# Altium schematic symbol library yu0316-NSC_LDO.SchLib: 2590 symbols (part 1 of 64)
Pins are listed as number, name and electrical type; pins without a type are passive.

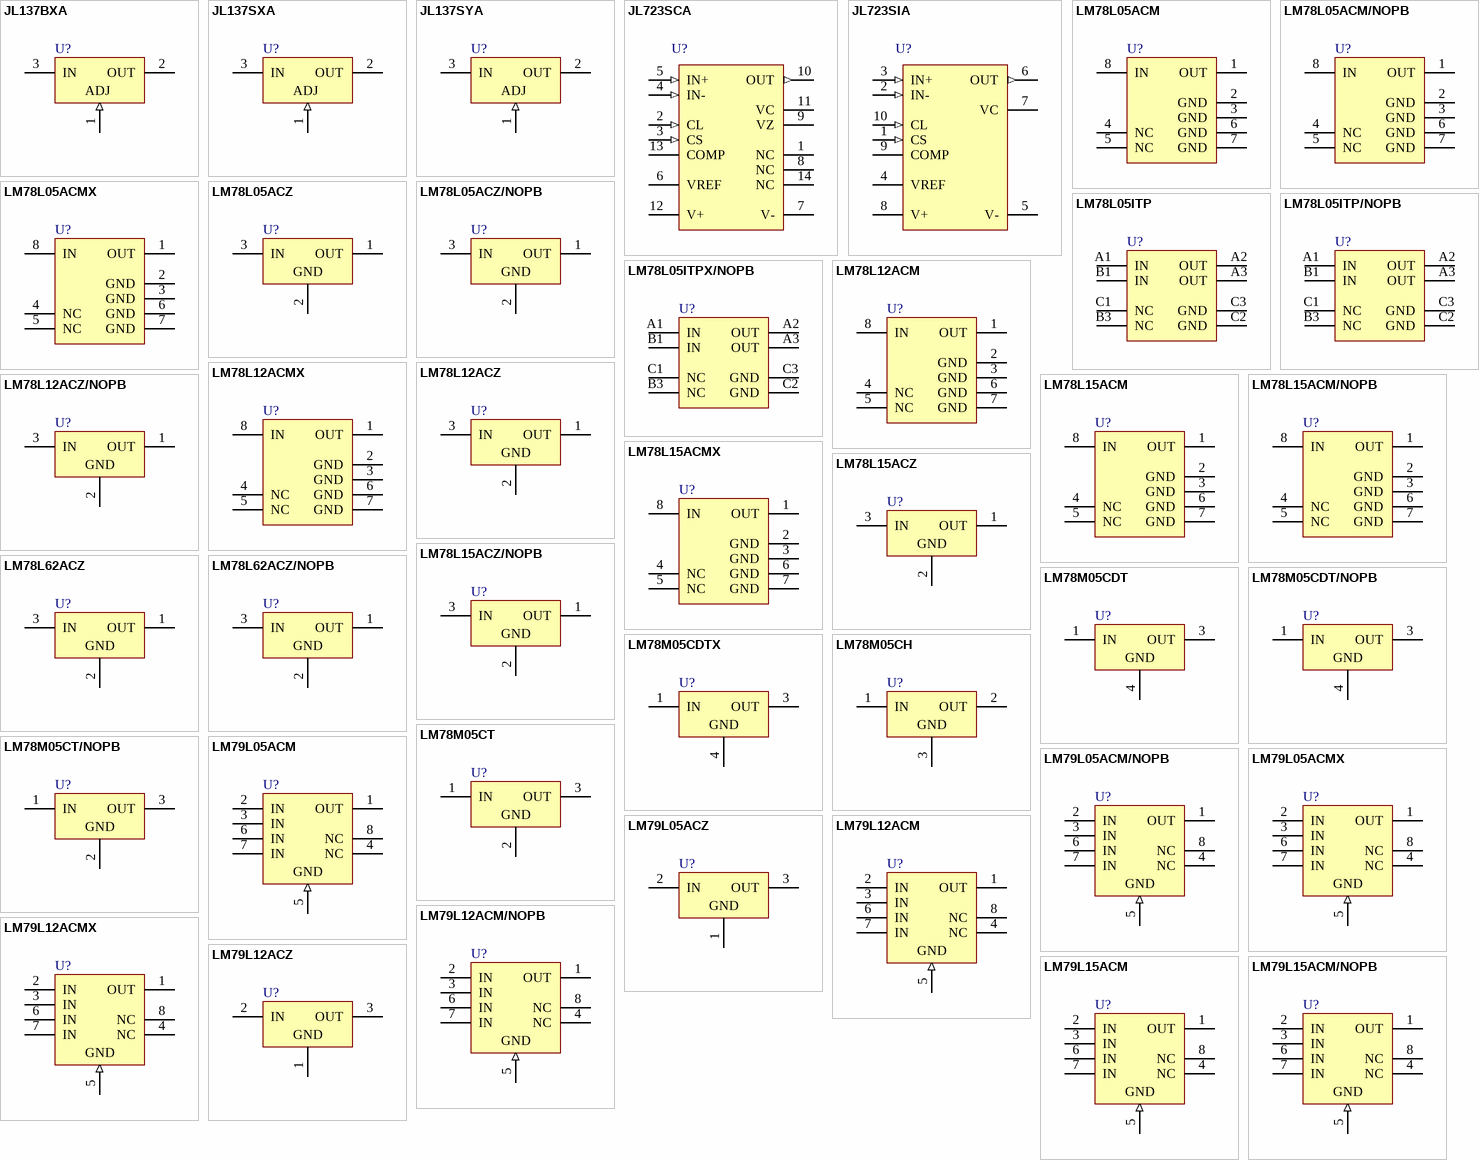
[diagram p0: symbols JL137BXA to LM79L15ACM/NOPB]

## JL137BXA
designator U?
3-Terminal Adjustable Negative Regulator, 3-pin TO-39; PartNumber: JL137BXA; Manufacturer: National Semiconductor; PackageTopMarking: NS ZSSXXYYA 27014 Q*JM38510/11803BXA; PowerWise: N; CompType: LDO IC; High-Reliability: Y; Published: 4-Dec-2008; DatasheetVersion: Nov-2004; PackageVersion: revD, Feb-1995; PackageReference: H03A; Publisher: Altium Limited; PackageDescription: Metal Can, TO-39, 3 Lead, .200in Dia, P.C.; RoHS: N; PinCount: 3; Code_JEDEC: TO-39; ComponentLink1Description: LM137 Datasheet; ComponentLink1URL: http://www.national.com/ds/LM/LM137.pdf; ComponentLink2Description: LM137 Web Page; ComponentLink2URL: http://www.national.com/pf/LM/LM137.html; ComponentLink3Description: H03A Package Page; ComponentLink3URL: http://www.national.com/packaging/folders/h03a.html
footprint H03A (Can; 3 Leads; Pin Circle Dia. 5.08 mm; Lead Dia. 0.48 mm (max))
pins: 1 ADJ (in), 2 OUT (power), 3 IN (power)

## JL137SXA
designator U?
3-Terminal Adjustable Negative Regulator, 3-pin TO-39; PartNumber: JL137SXA; Manufacturer: National Semiconductor; PackageTopMarking: NS ZSSXXYYA*JM38510/11803SXA; PowerWise: N; CompType: LDO IC; High-Reliability: Y; Published: 4-Dec-2008; DatasheetVersion: Nov-2004; PackageVersion: revD, Feb-1995; PackageReference: H03A; Publisher: Altium Limited; PackageDescription: Metal Can, TO-39, 3 Lead, .200in Dia, P.C.; RoHS: N; PinCount: 3; Code_JEDEC: TO-39; ComponentLink1Description: LM137 Datasheet; ComponentLink1URL: http://www.national.com/ds/LM/LM137.pdf; ComponentLink2Description: LM137 Web Page; ComponentLink2URL: http://www.national.com/pf/LM/LM137.html; ComponentLink3Description: H03A Package Page; ComponentLink3URL: http://www.national.com/packaging/folders/h03a.html
footprint H03A (Can; 3 Leads; Pin Circle Dia. 5.08 mm; Lead Dia. 0.48 mm (max))
pins: 1 ADJ (in), 2 OUT (power), 3 IN (power)

## JL137SYA
designator U?
3-Terminal Adjustable Negative Regulator, 3-pin TO-3; PartNumber: JL137SYA; Manufacturer: National Semiconductor; PackageTopMarking: NSZSSXXYYA*JM38510/*11804SYA*27014 Q; PowerWise: N; CompType: LDO IC; High-Reliability: Y; Published: 4-Dec-2008; DatasheetVersion: Nov-2004; PackageVersion: revE, Sep-1995; PackageReference: K02C; Publisher: Altium Limited; PackageDescription: Metal Can TO-3, 2 Lead, Low Profile; RoHS: N; PinCount: 2; ComponentLink1Description: LM137 Datasheet; ComponentLink1URL: http://www.national.com/ds/LM/LM137.pdf; ComponentLink2Description: LM137 Web Page; ComponentLink2URL: http://www.national.com/pf/LM/LM137.html; ComponentLink3Description: K02C Package Page; ComponentLink3URL: http://www.national.com/packaging/folders/k02c.html
footprint K02C (Oval Flange Mount with (2) Offset Leads; Pin Spacing 10.92 mm; Lead Dia. 1.09 mm (max))
pins: 1 ADJ (in), 2 OUT (power), 3 IN (power)

## JL723SCA
designator U?
Voltage Regulator, 14-pin CerDIP; PartNumber: JL723SCA; Manufacturer: National Semiconductor; PackageTopMarking: NS ZSSXXYYA*JM38510/10201SCA*27014 Q; PowerWise: N; CompType: LDO IC; High-Reliability: Y; Published: 4-Dec-2008; DatasheetVersion: Jun-1999; PackageVersion: revJ, Jul-2002; PackageReference: J14A; Publisher: Altium Limited; PackageDescription: Cerdip, .400 x .310in Body, 14 Lead, .300in Centers, .100in Pitch; RoHS: N; PinCount: 14; ComponentLink1Description: LM723JAN Datasheet; ComponentLink1URL: http://www.national.com/ds/LM/LM723JAN.pdf; ComponentLink2Description: LM723JAN Web Page; ComponentLink2URL: http://www.national.com/pf/LM/LM723JAN.html; ComponentLink3Description: J14A Package Page; ComponentLink3URL: http://www.national.com/packaging/folders/j14a.html
footprint J14A (DIP, 14-Leads, Row Spacing 7.62mm, Pitch 2.54mm, Body 19.56x6.73mm)
pins: 1 NC, 2 CL (in), 3 CS (in), 4 IN- (in), 5 IN+ (in), 6 VREF (power), 7 V- (power), 8 NC, 9 VZ (power), 10 OUT (out), 11 VC (power), 12 V+ (power), 13 COMP, 14 NC

## JL723SIA
designator U?
Voltage Regulator, 10-pin TO-100; PartNumber: JL723SIA; Manufacturer: National Semiconductor; PackageTopMarking: NS ZSSXXYYA*JM38510/10201SIA; PowerWise: N; CompType: LDO IC; High-Reliability: Y; Published: 4-Dec-2008; DatasheetVersion: Jun-1999; PackageVersion: revG, Nov-2008; PackageReference: H10C; Publisher: Altium Limited; PackageDescription: Metal Can, TO-100, 10 Lead, .230in Dia, P.C.; RoHS: N; PinCount: 10; ComponentLink1Description: LM723JAN Datasheet; ComponentLink1URL: http://www.national.com/ds/LM/LM723JAN.pdf; ComponentLink2Description: LM723JAN Web Page; ComponentLink2URL: http://www.national.com/pf/LM/LM723JAN.html; ComponentLink3Description: H10C Package Page; ComponentLink3URL: http://www.national.com/packaging/folders/h10c.html
footprint H10C (Can; 10 Leads; Pin Circle Dia. 5.84 mm; Lead Dia. 0.48 mm (max))
pins: 1 CS (in), 2 IN- (in), 3 IN+ (in), 4 VREF (power), 5 V- (power), 6 OUT (out), 7 VC (power), 8 V+ (power), 9 COMP, 10 CL (in)

## LM78L05ACM
designator U?
3-Terminal Positive Regulators, 8-pin Narrow SOIC; PartNumber: LM78L05ACM; Manufacturer: National Semiconductor; PackageTopMarking: NSZXTT*LM78L*05ACM; PowerWise: N; CompType: LDO IC; Published: 4-Dec-2008; DatasheetVersion: Apr-2006; PackageVersion: revM, May-2009; PackageReference: M08A; Publisher: Altium Limited; PackageDescription: SOIC Narrow, 4.9 x 3.9 x 1.45mm, 8 Lead, 1.27mm Pitch; Supplier 1: Farnell; Supplier Part Number 1: 9489436; RoHS: N; PinCount: 8; Code_JEDEC: MS-012-AA; Code_IPC: SOIC127P600-8; ComponentLink1Description: LM78L05 Datasheet; ComponentLink1URL: http://www.national.com/ds/LM/LM78L05.pdf; ComponentLink2Description: LM78L05 Web Page; ComponentLink2URL: http://www.national.com/pf/LM/LM78L05.html; ComponentLink3Description: M08A Package Page; ComponentLink3URL: http://www.national.com/packaging/folders/m08a.html
footprint M08A_N (SOIC, 8-Leads, Body 4.9x3.9mm, Pitch 1.27mm, IPC Medium Density)
footprint M08A_L (SOIC, 8-Leads, Body 4.9x3.9mm, Pitch 1.27mm, IPC High Density)
footprint M08A_M (SOIC, 8-Leads, Body 4.9x3.9mm, Pitch 1.27mm, IPC Low Density)
pins: 1 OUT (power), 2 GND (power), 3 GND (power), 4 NC, 5 NC, 6 GND (power), 7 GND (power), 8 IN (power)

## LM78L05ACM/NOPB
designator U?
3-Terminal Positive Regulators, 8-pin Narrow SOIC, Pb-Free; PartNumber: LM78L05ACM/NOPB; Manufacturer: National Semiconductor; PackageTopMarking: NSZXTT*LM78L*05ACM; PowerWise: N; CompType: LDO IC; Published: 1-Mar-2010; DatasheetVersion: Apr-2006; PackageVersion: revM, May-2009; PackageReference: M08A; Publisher: Altium Limited; PackageDescription: SOIC Narrow, 4.9 x 3.9 x 1.45mm, 8 Lead, 1.27mm Pitch; Supplier 1: Digi-Key; Supplier Part Number 1: LM78L05ACM-ND; Supplier 2: Farnell; Supplier Part Number 2: 1469107; RoHS: Y; PinCount: 8; Code_JEDEC: MS-012-AA; Code_IPC: SOIC127P600-8; ComponentLink1Description: LM78L05 Datasheet; ComponentLink1URL: http://www.national.com/ds/LM/LM78L05.pdf; ComponentLink2Description: LM78L05 Web Page; ComponentLink2URL: http://www.national.com/pf/LM/LM78L05.html; ComponentLink3Description: M08A Package Page; ComponentLink3URL: http://www.national.com/packaging/folders/m08a.html
footprint M08A_N (SOIC, 8-Leads, Body 4.9x3.9mm, Pitch 1.27mm, IPC Medium Density)
footprint M08A_L (SOIC, 8-Leads, Body 4.9x3.9mm, Pitch 1.27mm, IPC High Density)
footprint M08A_M (SOIC, 8-Leads, Body 4.9x3.9mm, Pitch 1.27mm, IPC Low Density)
pins: 1 OUT (power), 2 GND (power), 3 GND (power), 4 NC, 5 NC, 6 GND (power), 7 GND (power), 8 IN (power)

## LM78L05ACMX
designator U?
3-Terminal Positive Regulators, 8-pin Narrow SOIC; PartNumber: LM78L05ACMX; Manufacturer: National Semiconductor; PackageTopMarking: NSZXTT*LM78L*05ACM; PowerWise: N; CompType: LDO IC; Published: 1-Mar-2010; DatasheetVersion: Apr-2006; PackageVersion: revM, May-2009; PackageReference: M08A; Publisher: Altium Limited; PackageDescription: SOIC Narrow, 4.9 x 3.9 x 1.45mm, 8 Lead, 1.27mm Pitch; RoHS: N; PinCount: 8; Code_JEDEC: MS-012-AA; Code_IPC: SOIC127P600-8; ComponentLink1Description: LM78L05 Datasheet; ComponentLink1URL: http://www.national.com/ds/LM/LM78L05.pdf; ComponentLink2Description: LM78L05 Web Page; ComponentLink2URL: http://www.national.com/pf/LM/LM78L05.html; ComponentLink3Description: M08A Package Page; ComponentLink3URL: http://www.national.com/packaging/folders/m08a.html
footprint M08A_N (SOIC, 8-Leads, Body 4.9x3.9mm, Pitch 1.27mm, IPC Medium Density)
footprint M08A_L (SOIC, 8-Leads, Body 4.9x3.9mm, Pitch 1.27mm, IPC High Density)
footprint M08A_M (SOIC, 8-Leads, Body 4.9x3.9mm, Pitch 1.27mm, IPC Low Density)
pins: 1 OUT (power), 2 GND (power), 3 GND (power), 4 NC, 5 NC, 6 GND (power), 7 GND (power), 8 IN (power)

## LM78L05ACZ
designator U?
3-Terminal Positive Regulators, 3-pin TO-92; PartNumber: LM78L05ACZ; Manufacturer: National Semiconductor; PackageTopMarking: NSXYTT*LM78L*05ACZ; PowerWise: N; CompType: LDO IC; Published: 4-Dec-2008; DatasheetVersion: Apr-2006; PackageVersion: revG, Sep-2000; PackageReference: Z03A; Publisher: Altium Limited; PackageDescription: TO-92, Molded, 3 Lead; Supplier 1: Farnell; Supplier Part Number 1: 9489444; RoHS: N; PinCount: 3; Code_JEDEC: TO-226-AA; ComponentLink1Description: LM78L05 Datasheet; ComponentLink1URL: http://www.national.com/ds/LM/LM78L05.pdf; ComponentLink2Description: LM78L05 Web Page; ComponentLink2URL: http://www.national.com/pf/LM/LM78L05.html; ComponentLink3Description: Z03A Package Page; ComponentLink3URL: http://www.national.com/packaging/folders/z03a.html
footprint Z03A (TO, Flat Index; 3 In-Line, Axial Leads; Body Dia. 5mm; Leads 0.55 x 0.50 mm (max))
pins: 1 OUT (power), 2 GND (power), 3 IN (power)

## LM78L05ACZ/NOPB
designator U?
3-Terminal Positive Regulators, 3-pin TO-92, Pb-Free; PartNumber: LM78L05ACZ/NOPB; Manufacturer: National Semiconductor; PackageTopMarking: NSXYTT*LM78L*05ACZ; PowerWise: N; CompType: LDO IC; Published: 1-Mar-2010; DatasheetVersion: Apr-2006; PackageVersion: revG, Sep-2000; PackageReference: Z03A; Publisher: Altium Limited; PackageDescription: TO-92, Molded, 3 Lead; Supplier 1: Digi-Key; Supplier Part Number 1: LM78L05ACZNS-ND; Supplier 2: Farnell; Supplier Part Number 2: 1469108; RoHS: Y; PinCount: 3; Code_JEDEC: TO-226-AA; ComponentLink1Description: LM78L05 Datasheet; ComponentLink1URL: http://www.national.com/ds/LM/LM78L05.pdf; ComponentLink2Description: LM78L05 Web Page; ComponentLink2URL: http://www.national.com/pf/LM/LM78L05.html; ComponentLink3Description: Z03A Package Page; ComponentLink3URL: http://www.national.com/packaging/folders/z03a.html
footprint Z03A (TO, Flat Index; 3 In-Line, Axial Leads; Body Dia. 5mm; Leads 0.55 x 0.50 mm (max))
pins: 1 OUT (power), 2 GND (power), 3 IN (power)

## LM78L05ITP
designator U?
3-Terminal Positive Regulators, 8-pin Micro SMD; PartNumber: LM78L05ITP; Manufacturer: National Semiconductor; PackageTopMarking: XVP*I 03; PowerWise: N; CompType: LDO IC; Published: 4-Dec-2008; DatasheetVersion: Apr-2006; PackageVersion: revA, Mar-2002; PackageReference: TPA08AAA; Publisher: Altium Limited; PackageDescription: Thin Micro SMD, 8 Bump, 0.5mm Pitch; RoHS: Y; PinCount: 8; Code_JEDEC: MO-211-BC; ComponentLink1Description: LM78L05 Datasheet; ComponentLink1URL: http://www.national.com/ds/LM/LM78L05.pdf; ComponentLink2Description: LM78L05 Web Page; ComponentLink2URL: http://www.national.com/pf/LM/LM78L05.html; ComponentLink3Description: TPA08AAA Package Page; ComponentLink3URL: http://www.national.com/packaging/folders/tpa08aaa.html
footprint TPA08AAA (Micro SMD, 8-Leads, Body 1.29x1.29mm, Pitch 0.5mm, NSC Recommended)
pins: A1 IN (power), A2 OUT (power), A3 OUT (power), B1 IN (power), B3 NC, C1 NC, C2 GND (power), C3 GND (power)

## LM78L05ITP/NOPB
designator U?
3-Terminal Positive Regulators, 8-pin Micro SMD, Pb-Free; PartNumber: LM78L05ITP/NOPB; Manufacturer: National Semiconductor; PackageTopMarking: XVP*I 03; PowerWise: N; CompType: LDO IC; Published: 1-Mar-2010; DatasheetVersion: Apr-2006; PackageVersion: revA, Mar-2002; PackageReference: TPA08AAA; Publisher: Altium Limited; PackageDescription: Thin Micro SMD, 8 Bump, 0.5mm Pitch; Supplier 1: Digi-Key; Supplier Part Number 1: LM78L05ITPTR-ND; Supplier 2: Digi-Key; Supplier Part Number 2: LM78L05ITPCT-ND; Supplier 3: Digi-Key; Supplier Part Number 3: LM78L05ITPDKR-ND; RoHS: Y; PinCount: 8; Code_JEDEC: MO-211-BC; ComponentLink1Description: LM78L05 Datasheet; ComponentLink1URL: http://www.national.com/ds/LM/LM78L05.pdf; ComponentLink2Description: LM78L05 Web Page; ComponentLink2URL: http://www.national.com/pf/LM/LM78L05.html; ComponentLink3Description: TPA08AAA Package Page; ComponentLink3URL: http://www.national.com/packaging/folders/tpa08aaa.html
footprint TPA08AAA (Micro SMD, 8-Leads, Body 1.29x1.29mm, Pitch 0.5mm, NSC Recommended)
pins: A1 IN (power), A2 OUT (power), A3 OUT (power), B1 IN (power), B3 NC, C1 NC, C2 GND (power), C3 GND (power)

## LM78L05ITPX/NOPB
designator U?
3-Terminal Positive Regulators, 8-pin Micro SMD, Pb-Free; PartNumber: LM78L05ITPX/NOPB; Manufacturer: National Semiconductor; PackageTopMarking: XVP*I 03; PowerWise: N; CompType: LDO IC; Published: 1-Mar-2010; DatasheetVersion: Apr-2006; PackageVersion: revA, Mar-2002; PackageReference: TPA08AAA; Publisher: Altium Limited; PackageDescription: Thin Micro SMD, 8 Bump, 0.5mm Pitch; Supplier 1: Digi-Key; Supplier Part Number 1: LM78L05ITPX-ND; RoHS: Y; PinCount: 8; Code_JEDEC: MO-211-BC; ComponentLink1Description: LM78L05 Datasheet; ComponentLink1URL: http://www.national.com/ds/LM/LM78L05.pdf; ComponentLink2Description: LM78L05 Web Page; ComponentLink2URL: http://www.national.com/pf/LM/LM78L05.html; ComponentLink3Description: TPA08AAA Package Page; ComponentLink3URL: http://www.national.com/packaging/folders/tpa08aaa.html
footprint TPA08AAA (Micro SMD, 8-Leads, Body 1.29x1.29mm, Pitch 0.5mm, NSC Recommended)
pins: A1 IN (power), A2 OUT (power), A3 OUT (power), B1 IN (power), B3 NC, C1 NC, C2 GND (power), C3 GND (power)

## LM78L12ACM
designator U?
3-Terminal Positive Regulators, 8-pin Narrow SOIC; PartNumber: LM78L12ACM; Manufacturer: National Semiconductor; PackageTopMarking: NSZXTT*LM78L*12ACM; PowerWise: N; CompType: LDO IC; Published: 4-Dec-2008; DatasheetVersion: Apr-2006; PackageVersion: revM, May-2009; PackageReference: M08A; Publisher: Altium Limited; PackageDescription: SOIC Narrow, 4.9 x 3.9 x 1.45mm, 8 Lead, 1.27mm Pitch; Supplier 1: Farnell; Supplier Part Number 1: 9490264; RoHS: N; PinCount: 8; Code_JEDEC: MS-012-AA; Code_IPC: SOIC127P600-8; ComponentLink1Description: LM78L12 Datasheet; ComponentLink1URL: http://www.national.com/ds/LM/LM78L12.pdf; ComponentLink2Description: LM78L12 Web Page; ComponentLink2URL: http://www.national.com/pf/LM/LM78L12.html; ComponentLink3Description: M08A Package Page; ComponentLink3URL: http://www.national.com/packaging/folders/m08a.html
footprint M08A_N (SOIC, 8-Leads, Body 4.9x3.9mm, Pitch 1.27mm, IPC Medium Density)
footprint M08A_L (SOIC, 8-Leads, Body 4.9x3.9mm, Pitch 1.27mm, IPC High Density)
footprint M08A_M (SOIC, 8-Leads, Body 4.9x3.9mm, Pitch 1.27mm, IPC Low Density)
pins: 1 OUT (power), 2 GND (power), 3 GND (power), 4 NC, 5 NC, 6 GND (power), 7 GND (power), 8 IN (power)

## LM78L12ACMX
designator U?
3-Terminal Positive Regulators, 8-pin Narrow SOIC; PartNumber: LM78L12ACMX; Manufacturer: National Semiconductor; PackageTopMarking: NSZXTT*LM78L*12ACM; PowerWise: N; CompType: LDO IC; Published: 1-Mar-2010; DatasheetVersion: Apr-2006; PackageVersion: revM, May-2009; PackageReference: M08A; Publisher: Altium Limited; PackageDescription: SOIC Narrow, 4.9 x 3.9 x 1.45mm, 8 Lead, 1.27mm Pitch; RoHS: N; PinCount: 8; Code_JEDEC: MS-012-AA; Code_IPC: SOIC127P600-8; ComponentLink1Description: LM78L12 Datasheet; ComponentLink1URL: http://www.national.com/ds/LM/LM78L12.pdf; ComponentLink2Description: LM78L12 Web Page; ComponentLink2URL: http://www.national.com/pf/LM/LM78L12.html; ComponentLink3Description: M08A Package Page; ComponentLink3URL: http://www.national.com/packaging/folders/m08a.html
footprint M08A_N (SOIC, 8-Leads, Body 4.9x3.9mm, Pitch 1.27mm, IPC Medium Density)
footprint M08A_L (SOIC, 8-Leads, Body 4.9x3.9mm, Pitch 1.27mm, IPC High Density)
footprint M08A_M (SOIC, 8-Leads, Body 4.9x3.9mm, Pitch 1.27mm, IPC Low Density)
pins: 1 OUT (power), 2 GND (power), 3 GND (power), 4 NC, 5 NC, 6 GND (power), 7 GND (power), 8 IN (power)

## LM78L12ACZ
designator U?
3-Terminal Positive Regulators, 3-pin TO-92; PartNumber: LM78L12ACZ; Manufacturer: National Semiconductor; PackageTopMarking: NSXYTT*LM78L*12ACZ; PowerWise: N; CompType: LDO IC; Published: 4-Dec-2008; DatasheetVersion: Apr-2006; PackageVersion: revG, Sep-2000; PackageReference: Z03A; Publisher: Altium Limited; PackageDescription: TO-92, Molded, 3 Lead; Supplier 1: Farnell; Supplier Part Number 1: 9490272; RoHS: N; PinCount: 3; Code_JEDEC: TO-226-AA; ComponentLink1Description: LM78L12 Datasheet; ComponentLink1URL: http://www.national.com/ds/LM/LM78L12.pdf; ComponentLink2Description: LM78L12 Web Page; ComponentLink2URL: http://www.national.com/pf/LM/LM78L12.html; ComponentLink3Description: Z03A Package Page; ComponentLink3URL: http://www.national.com/packaging/folders/z03a.html
footprint Z03A (TO, Flat Index; 3 In-Line, Axial Leads; Body Dia. 5mm; Leads 0.55 x 0.50 mm (max))
pins: 1 OUT (power), 2 GND (power), 3 IN (power)

## LM78L12ACZ/NOPB
designator U?
3-Terminal Positive Regulators, 3-pin TO-92, Pb-Free; PartNumber: LM78L12ACZ/NOPB; Manufacturer: National Semiconductor; PackageTopMarking: NSXYTT*LM78L*12ACZ; PowerWise: N; CompType: LDO IC; Published: 1-Mar-2010; DatasheetVersion: Apr-2006; PackageVersion: revG, Sep-2000; PackageReference: Z03A; Publisher: Altium Limited; PackageDescription: TO-92, Molded, 3 Lead; Supplier 1: Digi-Key; Supplier Part Number 1: LM78L12ACZ/NOPB-ND; Supplier 2: Farnell; Supplier Part Number 2: 1469110; RoHS: Y; PinCount: 3; Code_JEDEC: TO-226-AA; ComponentLink1Description: LM78L12 Datasheet; ComponentLink1URL: http://www.national.com/ds/LM/LM78L12.pdf; ComponentLink2Description: LM78L12 Web Page; ComponentLink2URL: http://www.national.com/pf/LM/LM78L12.html; ComponentLink3Description: Z03A Package Page; ComponentLink3URL: http://www.national.com/packaging/folders/z03a.html
footprint Z03A (TO, Flat Index; 3 In-Line, Axial Leads; Body Dia. 5mm; Leads 0.55 x 0.50 mm (max))
pins: 1 OUT (power), 2 GND (power), 3 IN (power)

## LM78L15ACM
designator U?
3-Terminal Positive Regulators, 8-pin Narrow SOIC; PartNumber: LM78L15ACM; Manufacturer: National Semiconductor; PackageTopMarking: NSZXTT*LM78L*15ACM; PowerWise: N; CompType: LDO IC; Published: 4-Dec-2008; DatasheetVersion: Apr-2006; PackageVersion: revM, May-2009; PackageReference: M08A; Publisher: Altium Limited; PackageDescription: SOIC Narrow, 4.9 x 3.9 x 1.45mm, 8 Lead, 1.27mm Pitch; Supplier 1: Digi-Key; Supplier Part Number 1: LM78L15ACM-ND; Supplier 2: Farnell; Supplier Part Number 2: 9490302; RoHS: N; PinCount: 8; Code_JEDEC: MS-012-AA; Code_IPC: SOIC127P600-8; ComponentLink1Description: LM78L15 Datasheet; ComponentLink1URL: http://www.national.com/ds/LM/LM78L15.pdf; ComponentLink2Description: LM78L15 Web Page; ComponentLink2URL: http://www.national.com/pf/LM/LM78L15.html; ComponentLink3Description: M08A Package Page; ComponentLink3URL: http://www.national.com/packaging/folders/m08a.html
footprint M08A_N (SOIC, 8-Leads, Body 4.9x3.9mm, Pitch 1.27mm, IPC Medium Density)
footprint M08A_L (SOIC, 8-Leads, Body 4.9x3.9mm, Pitch 1.27mm, IPC High Density)
footprint M08A_M (SOIC, 8-Leads, Body 4.9x3.9mm, Pitch 1.27mm, IPC Low Density)
pins: 1 OUT (power), 2 GND (power), 3 GND (power), 4 NC, 5 NC, 6 GND (power), 7 GND (power), 8 IN (power)

## LM78L15ACM/NOPB
designator U?
3-Terminal Positive Regulators, 8-pin Narrow SOIC, Pb-Free; PartNumber: LM78L15ACM/NOPB; Manufacturer: National Semiconductor; PackageTopMarking: NSZXTT*LM78L*15ACM; PowerWise: N; CompType: LDO IC; Published: 1-Mar-2010; DatasheetVersion: Apr-2006; PackageVersion: revM, May-2009; PackageReference: M08A; Publisher: Altium Limited; PackageDescription: SOIC Narrow, 4.9 x 3.9 x 1.45mm, 8 Lead, 1.27mm Pitch; Supplier 1: Digi-Key; Supplier Part Number 1: LM78L15ACM/NOPB-ND; Supplier 2: Farnell; Supplier Part Number 2: 1469111; RoHS: Y; PinCount: 8; Code_JEDEC: MS-012-AA; Code_IPC: SOIC127P600-8; ComponentLink1Description: LM78L15 Datasheet; ComponentLink1URL: http://www.national.com/ds/LM/LM78L15.pdf; ComponentLink2Description: LM78L15 Web Page; ComponentLink2URL: http://www.national.com/pf/LM/LM78L15.html; ComponentLink3Description: M08A Package Page; ComponentLink3URL: http://www.national.com/packaging/folders/m08a.html
footprint M08A_N (SOIC, 8-Leads, Body 4.9x3.9mm, Pitch 1.27mm, IPC Medium Density)
footprint M08A_L (SOIC, 8-Leads, Body 4.9x3.9mm, Pitch 1.27mm, IPC High Density)
footprint M08A_M (SOIC, 8-Leads, Body 4.9x3.9mm, Pitch 1.27mm, IPC Low Density)
pins: 1 OUT (power), 2 GND (power), 3 GND (power), 4 NC, 5 NC, 6 GND (power), 7 GND (power), 8 IN (power)

## LM78L15ACMX
designator U?
3-Terminal Positive Regulators, 8-pin Narrow SOIC; PartNumber: LM78L15ACMX; Manufacturer: National Semiconductor; PackageTopMarking: NSZXTT*LM78L*15ACM; PowerWise: N; CompType: LDO IC; Published: 1-Mar-2010; DatasheetVersion: Apr-2006; PackageVersion: revM, May-2009; PackageReference: M08A; Publisher: Altium Limited; PackageDescription: SOIC Narrow, 4.9 x 3.9 x 1.45mm, 8 Lead, 1.27mm Pitch; Supplier 1: Digi-Key; Supplier Part Number 1: LM78L15ACMXTR-ND; Supplier 2: Digi-Key; Supplier Part Number 2: LM78L15ACMXCT-ND; RoHS: N; PinCount: 8; Code_JEDEC: MS-012-AA; Code_IPC: SOIC127P600-8; ComponentLink1Description: LM78L15 Datasheet; ComponentLink1URL: http://www.national.com/ds/LM/LM78L15.pdf; ComponentLink2Description: LM78L15 Web Page; ComponentLink2URL: http://www.national.com/pf/LM/LM78L15.html; ComponentLink3Description: M08A Package Page; ComponentLink3URL: http://www.national.com/packaging/folders/m08a.html
footprint M08A_N (SOIC, 8-Leads, Body 4.9x3.9mm, Pitch 1.27mm, IPC Medium Density)
footprint M08A_L (SOIC, 8-Leads, Body 4.9x3.9mm, Pitch 1.27mm, IPC High Density)
footprint M08A_M (SOIC, 8-Leads, Body 4.9x3.9mm, Pitch 1.27mm, IPC Low Density)
pins: 1 OUT (power), 2 GND (power), 3 GND (power), 4 NC, 5 NC, 6 GND (power), 7 GND (power), 8 IN (power)

## LM78L15ACZ
designator U?
3-Terminal Positive Regulators, 3-pin TO-92; PartNumber: LM78L15ACZ; Manufacturer: National Semiconductor; PackageTopMarking: NSXYTT*LM78L*15ACZ; PowerWise: N; CompType: LDO IC; Published: 4-Dec-2008; DatasheetVersion: Apr-2006; PackageVersion: revG, Sep-2000; PackageReference: Z03A; Publisher: Altium Limited; PackageDescription: TO-92, Molded, 3 Lead; Supplier 1: Farnell; Supplier Part Number 1: 9490310; RoHS: N; PinCount: 3; Code_JEDEC: TO-226-AA; ComponentLink1Description: LM78L15 Datasheet; ComponentLink1URL: http://www.national.com/ds/LM/LM78L15.pdf; ComponentLink2Description: LM78L15 Web Page; ComponentLink2URL: http://www.national.com/pf/LM/LM78L15.html; ComponentLink3Description: Z03A Package Page; ComponentLink3URL: http://www.national.com/packaging/folders/z03a.html
footprint Z03A (TO, Flat Index; 3 In-Line, Axial Leads; Body Dia. 5mm; Leads 0.55 x 0.50 mm (max))
pins: 1 OUT (power), 2 GND (power), 3 IN (power)

## LM78L15ACZ/NOPB
designator U?
3-Terminal Positive Regulators, 3-pin TO-92, Pb-Free; PartNumber: LM78L15ACZ/NOPB; Manufacturer: National Semiconductor; PackageTopMarking: NSXYTT*LM78L*15ACZ; PowerWise: N; CompType: LDO IC; Published: 1-Mar-2010; DatasheetVersion: Apr-2006; PackageVersion: revG, Sep-2000; PackageReference: Z03A; Publisher: Altium Limited; PackageDescription: TO-92, Molded, 3 Lead; Supplier 1: Digi-Key; Supplier Part Number 1: LM78L15ACZ-ND; Supplier 2: Farnell; Supplier Part Number 2: 1150304; RoHS: Y; PinCount: 3; Code_JEDEC: TO-226-AA; ComponentLink1Description: LM78L15 Datasheet; ComponentLink1URL: http://www.national.com/ds/LM/LM78L15.pdf; ComponentLink2Description: LM78L15 Web Page; ComponentLink2URL: http://www.national.com/pf/LM/LM78L15.html; ComponentLink3Description: Z03A Package Page; ComponentLink3URL: http://www.national.com/packaging/folders/z03a.html
footprint Z03A (TO, Flat Index; 3 In-Line, Axial Leads; Body Dia. 5mm; Leads 0.55 x 0.50 mm (max))
pins: 1 OUT (power), 2 GND (power), 3 IN (power)

## LM78L62ACZ
designator U?
3-Terminal Positive Regulators, 3-pin TO-92; PartNumber: LM78L62ACZ; Manufacturer: National Semiconductor; PackageTopMarking: NSXYTT*LM78L*62ACZ; PowerWise: N; CompType: LDO IC; Published: 4-Dec-2008; DatasheetVersion: Apr-2006; PackageVersion: revG, Sep-2000; PackageReference: Z03A; Publisher: Altium Limited; PackageDescription: TO-92, Molded, 3 Lead; Supplier 1: Farnell; Supplier Part Number 1: 9490213; RoHS: N; PinCount: 3; Code_JEDEC: TO-226-AA; ComponentLink1Description: LM78L62 Datasheet; ComponentLink1URL: http://www.national.com/ds/LM/LM78L62.pdf; ComponentLink2Description: LM78L62 Web Page; ComponentLink2URL: http://www.national.com/pf/LM/LM78L62.html; ComponentLink3Description: Z03A Package Page; ComponentLink3URL: http://www.national.com/packaging/folders/z03a.html
footprint Z03A (TO, Flat Index; 3 In-Line, Axial Leads; Body Dia. 5mm; Leads 0.55 x 0.50 mm (max))
pins: 1 OUT (power), 2 GND (power), 3 IN (power)

## LM78L62ACZ/NOPB
designator U?
3-Terminal Positive Regulators, 3-pin TO-92, Pb-Free; PartNumber: LM78L62ACZ/NOPB; Manufacturer: National Semiconductor; PackageTopMarking: NSXYTT*LM78L*62ACZ; PowerWise: N; CompType: LDO IC; Published: 1-Mar-2010; DatasheetVersion: Apr-2006; PackageVersion: revG, Sep-2000; PackageReference: Z03A; Publisher: Altium Limited; PackageDescription: TO-92, Molded, 3 Lead; Supplier 1: Digi-Key; Supplier Part Number 1: LM78L62ACZ-ND; RoHS: Y; PinCount: 3; Code_JEDEC: TO-226-AA; ComponentLink1Description: LM78L62 Datasheet; ComponentLink1URL: http://www.national.com/ds/LM/LM78L62.pdf; ComponentLink2Description: LM78L62 Web Page; ComponentLink2URL: http://www.national.com/pf/LM/LM78L62.html; ComponentLink3Description: Z03A Package Page; ComponentLink3URL: http://www.national.com/packaging/folders/z03a.html
footprint Z03A (TO, Flat Index; 3 In-Line, Axial Leads; Body Dia. 5mm; Leads 0.55 x 0.50 mm (max))
pins: 1 OUT (power), 2 GND (power), 3 IN (power)

## LM78M05CDT
designator U?
3-Terminal Positive Voltage Regulators, 3-pin TO-252; PartNumber: LM78M05CDT; Manufacturer: National Semiconductor; PackageTopMarking: NSUZXYTT*LM78M05*CDT; PowerWise: N; CompType: LDO IC; Published: 4-Dec-2008; DatasheetVersion: Aug-2005; PackageVersion: revD, Feb-2009; PackageReference: TD03B; Publisher: Altium Limited; PackageDescription: TO252, Molded, Jedec, 6.8 x 6.10 x 2.30mm Body, 3 Lead, 2.28mm Pitch, Surface Mount; RoHS: N; PinCount: 3; Code_JEDEC: TO-252-AA; ComponentLink1Description: LM78M05 Datasheet; ComponentLink1URL: http://www.national.com/ds/LM/LM78M05.pdf; ComponentLink2Description: LM78M05 Web Page; ComponentLink2URL: http://www.national.com/pf/LM/LM78M05.html; ComponentLink3Description: TD03B Package Page; ComponentLink3URL: http://www.national.com/packaging/folders/td03b.html
footprint TD03B_N (D-PAK, 4-Leads, Body 6.1x6.6mm, Pitch 2.29mm, Lead Span 9.7mm, IPC Medium Density)
footprint TD03B_L (D-PAK, 4-Leads, Body 6.1x6.6mm, Pitch 2.29mm, Lead Span 9.7mm, IPC High Density)
footprint TD03B_M (D-PAK, 4-Leads, Body 6.1x6.6mm, Pitch 2.29mm, Lead Span 9.7mm, IPC Low Density)
pins: 1 IN (power), 3 OUT (power), 4 GND (power)

## LM78M05CDT/NOPB
designator U?
3-Terminal Positive Voltage Regulators, 3-pin TO-252, Pb-Free; PartNumber: LM78M05CDT/NOPB; Manufacturer: National Semiconductor; PackageTopMarking: NSUZXYTT*LM78M05*CDT; PowerWise: N; CompType: LDO IC; Published: 1-Mar-2010; DatasheetVersion: Aug-2005; PackageVersion: revD, Feb-2009; PackageReference: TD03B; Publisher: Altium Limited; PackageDescription: TO252, Molded, Jedec, 6.8 x 6.10 x 2.30mm Body, 3 Lead, 2.28mm Pitch, Surface Mount; Supplier 1: Digi-Key; Supplier Part Number 1: LM78M05CDT-ND; Supplier 2: Farnell; Supplier Part Number 2: 1469112; RoHS: Y; PinCount: 3; Code_JEDEC: TO-252-AA; ComponentLink1Description: LM78M05 Datasheet; ComponentLink1URL: http://www.national.com/ds/LM/LM78M05.pdf; ComponentLink2Description: LM78M05 Web Page; ComponentLink2URL: http://www.national.com/pf/LM/LM78M05.html; ComponentLink3Description: TD03B Package Page; ComponentLink3URL: http://www.national.com/packaging/folders/td03b.html
footprint TD03B_N (D-PAK, 4-Leads, Body 6.1x6.6mm, Pitch 2.29mm, Lead Span 9.7mm, IPC Medium Density)
footprint TD03B_L (D-PAK, 4-Leads, Body 6.1x6.6mm, Pitch 2.29mm, Lead Span 9.7mm, IPC High Density)
footprint TD03B_M (D-PAK, 4-Leads, Body 6.1x6.6mm, Pitch 2.29mm, Lead Span 9.7mm, IPC Low Density)
pins: 1 IN (power), 3 OUT (power), 4 GND (power)

## LM78M05CDTX
designator U?
3-Terminal Positive Voltage Regulators, 3-pin TO-252; PartNumber: LM78M05CDTX; Manufacturer: National Semiconductor; PackageTopMarking: NSUZXYTT*LM78M05*CDT; PowerWise: N; CompType: LDO IC; Published: 1-Mar-2010; DatasheetVersion: Aug-2005; PackageVersion: revD, Feb-2009; PackageReference: TD03B; Publisher: Altium Limited; PackageDescription: TO252, Molded, Jedec, 6.8 x 6.10 x 2.30mm Body, 3 Lead, 2.28mm Pitch, Surface Mount; RoHS: N; PinCount: 3; Code_JEDEC: TO-252-AA; ComponentLink1Description: LM78M05 Datasheet; ComponentLink1URL: http://www.national.com/ds/LM/LM78M05.pdf; ComponentLink2Description: LM78M05 Web Page; ComponentLink2URL: http://www.national.com/pf/LM/LM78M05.html; ComponentLink3Description: TD03B Package Page; ComponentLink3URL: http://www.national.com/packaging/folders/td03b.html
footprint TD03B_N (D-PAK, 4-Leads, Body 6.1x6.6mm, Pitch 2.29mm, Lead Span 9.7mm, IPC Medium Density)
footprint TD03B_L (D-PAK, 4-Leads, Body 6.1x6.6mm, Pitch 2.29mm, Lead Span 9.7mm, IPC High Density)
footprint TD03B_M (D-PAK, 4-Leads, Body 6.1x6.6mm, Pitch 2.29mm, Lead Span 9.7mm, IPC Low Density)
pins: 1 IN (power), 3 OUT (power), 4 GND (power)

## LM78M05CH
designator U?
3-Terminal Positive Voltage Regulators, 3-pin TO-39; PartNumber: LM78M05CH; Manufacturer: National Semiconductor; PackageTopMarking: NSZXYTTE# LM78M05CH; PowerWise: N; CompType: LDO IC; High-Reliability: Y; Published: 4-Dec-2008; DatasheetVersion: Aug-2005; PackageVersion: revD, Feb-1995; PackageReference: H03A; Publisher: Altium Limited; PackageDescription: Metal Can, TO-39, 3 Lead, .200in Dia, P.C.; RoHS: N; PinCount: 3; Code_JEDEC: TO-39; ComponentLink1Description: LM78M05 Datasheet; ComponentLink1URL: http://www.national.com/ds/LM/LM78M05.pdf; ComponentLink2Description: LM78M05 Web Page; ComponentLink2URL: http://www.national.com/pf/LM/LM78M05.html; ComponentLink3Description: H03A Package Page; ComponentLink3URL: http://www.national.com/packaging/folders/h03a.html
footprint H03A (Can; 3 Leads; Pin Circle Dia. 5.08 mm; Lead Dia. 0.48 mm (max))
pins: 1 IN (power), 2 OUT (power), 3 GND (power)

## LM78M05CT
designator U?
3-Terminal Positive Voltage Regulators, 3-pin TO-220; PartNumber: LM78M05CT; Manufacturer: National Semiconductor; PackageTopMarking: NSUZXYTTE#*LM341T-5.0*LM78M05CT; PowerWise: N; CompType: LDO IC; Published: 4-Dec-2008; DatasheetVersion: Aug-2005; PackageVersion: revL, Jan-1992; PackageReference: T03B; Publisher: Altium Limited; PackageDescription: TO-220, Molded, 3 Lead, Straight; Supplier 1: Farnell; Supplier Part Number 1: 4467103; RoHS: N; PinCount: 3; ComponentLink1Description: LM78M05 Datasheet; ComponentLink1URL: http://www.national.com/ds/LM/LM78M05.pdf; ComponentLink2Description: LM78M05 Web Page; ComponentLink2URL: http://www.national.com/pf/LM/LM78M05.html; ComponentLink3Description: T03B Package Page; ComponentLink3URL: http://www.national.com/packaging/folders/t03b.html
footprint T03B (TO, Thru-Hole, Vertical, Heatsink Mounted; 3 In-Line Leads; Pitch 2.54 mm)
pins: 1 IN (power), 2 GND (power), 3 OUT (power)

## LM78M05CT/NOPB
designator U?
3-Terminal Positive Voltage Regulators, 3-pin TO-220, Pb-Free; PartNumber: LM78M05CT/NOPB; Manufacturer: National Semiconductor; PackageTopMarking: NSUZXYTTE#*LM341T-5.0*LM78M05CT; PowerWise: N; CompType: LDO IC; Published: 1-Mar-2010; DatasheetVersion: Aug-2005; PackageVersion: revL, Jan-1992; PackageReference: T03B; Publisher: Altium Limited; PackageDescription: TO-220, Molded, 3 Lead, Straight; Supplier 1: Digi-Key; Supplier Part Number 1: LM78M05CT-ND; Supplier 2: Farnell; Supplier Part Number 2: 1685493; RoHS: Y; PinCount: 3; ComponentLink1Description: LM78M05 Datasheet; ComponentLink1URL: http://www.national.com/ds/LM/LM78M05.pdf; ComponentLink2Description: LM78M05 Web Page; ComponentLink2URL: http://www.national.com/pf/LM/LM78M05.html; ComponentLink3Description: T03B Package Page; ComponentLink3URL: http://www.national.com/packaging/folders/t03b.html
footprint T03B (TO, Thru-Hole, Vertical, Heatsink Mounted; 3 In-Line Leads; Pitch 2.54 mm)
pins: 1 IN (power), 2 GND (power), 3 OUT (power)

## LM79L05ACM
designator U?
Series 3-Terminal Negative Regulators, 8-pin Narrow SOIC; PartNumber: LM79L05ACM; Manufacturer: National Semiconductor; PackageTopMarking: NSZXTT*LM79L*05ACM; PowerWise: N; CompType: LDO IC; Published: 4-Dec-2008; DatasheetVersion: Mar-2006; PackageVersion: revM, May-2009; PackageReference: M08A; Publisher: Altium Limited; PackageDescription: SOIC Narrow, 4.9 x 3.9 x 1.45mm, 8 Lead, 1.27mm Pitch; Supplier 1: Farnell; Supplier Part Number 1: 9490345; RoHS: N; PinCount: 8; Code_JEDEC: MS-012-AA; Code_IPC: SOIC127P600-8; ComponentLink1Description: LM79L05AC Datasheet; ComponentLink1URL: http://www.national.com/ds/LM/LM79L05.pdf; ComponentLink2Description: LM79L05AC Web Page; ComponentLink2URL: http://www.national.com/pf/LM/LM79L05AC.html; ComponentLink3Description: M08A Package Page; ComponentLink3URL: http://www.national.com/packaging/folders/m08a.html
footprint M08A_N (SOIC, 8-Leads, Body 4.9x3.9mm, Pitch 1.27mm, IPC Medium Density)
footprint M08A_L (SOIC, 8-Leads, Body 4.9x3.9mm, Pitch 1.27mm, IPC High Density)
footprint M08A_M (SOIC, 8-Leads, Body 4.9x3.9mm, Pitch 1.27mm, IPC Low Density)
pins: 1 OUT (power), 2 IN (power), 3 IN (power), 4 NC, 5 GND (in), 6 IN (power), 7 IN (power), 8 NC

## LM79L05ACM/NOPB
designator U?
Series 3-Terminal Negative Regulators, 8-pin Narrow SOIC, Pb-Free; PartNumber: LM79L05ACM/NOPB; Manufacturer: National Semiconductor; PackageTopMarking: NSZXTT*LM79L*05ACM; PowerWise: N; CompType: LDO IC; Published: 1-Mar-2010; DatasheetVersion: Mar-2006; PackageVersion: revM, May-2009; PackageReference: M08A; Publisher: Altium Limited; PackageDescription: SOIC Narrow, 4.9 x 3.9 x 1.45mm, 8 Lead, 1.27mm Pitch; Supplier 1: Digi-Key; Supplier Part Number 1: LM79L05ACM-ND; Supplier 2: Farnell; Supplier Part Number 2: 1469115; RoHS: Y; PinCount: 8; Code_JEDEC: MS-012-AA; Code_IPC: SOIC127P600-8; ComponentLink1Description: LM79L05AC Datasheet; ComponentLink1URL: http://www.national.com/ds/LM/LM79L05.pdf; ComponentLink2Description: LM79L05AC Web Page; ComponentLink2URL: http://www.national.com/pf/LM/LM79L05AC.html; ComponentLink3Description: M08A Package Page; ComponentLink3URL: http://www.national.com/packaging/folders/m08a.html
footprint M08A_N (SOIC, 8-Leads, Body 4.9x3.9mm, Pitch 1.27mm, IPC Medium Density)
footprint M08A_L (SOIC, 8-Leads, Body 4.9x3.9mm, Pitch 1.27mm, IPC High Density)
footprint M08A_M (SOIC, 8-Leads, Body 4.9x3.9mm, Pitch 1.27mm, IPC Low Density)
pins: 1 OUT (power), 2 IN (power), 3 IN (power), 4 NC, 5 GND (in), 6 IN (power), 7 IN (power), 8 NC

## LM79L05ACMX
designator U?
Series 3-Terminal Negative Regulators, 8-pin Narrow SOIC; PartNumber: LM79L05ACMX; Manufacturer: National Semiconductor; PackageTopMarking: NSZXTT*LM79L*05ACM; PowerWise: N; CompType: LDO IC; Published: 1-Mar-2010; DatasheetVersion: Mar-2006; PackageVersion: revM, May-2009; PackageReference: M08A; Publisher: Altium Limited; PackageDescription: SOIC Narrow, 4.9 x 3.9 x 1.45mm, 8 Lead, 1.27mm Pitch; RoHS: N; PinCount: 8; Code_JEDEC: MS-012-AA; Code_IPC: SOIC127P600-8; ComponentLink1Description: LM79L05AC Datasheet; ComponentLink1URL: http://www.national.com/ds/LM/LM79L05.pdf; ComponentLink2Description: LM79L05AC Web Page; ComponentLink2URL: http://www.national.com/pf/LM/LM79L05AC.html; ComponentLink3Description: M08A Package Page; ComponentLink3URL: http://www.national.com/packaging/folders/m08a.html
footprint M08A_N (SOIC, 8-Leads, Body 4.9x3.9mm, Pitch 1.27mm, IPC Medium Density)
footprint M08A_L (SOIC, 8-Leads, Body 4.9x3.9mm, Pitch 1.27mm, IPC High Density)
footprint M08A_M (SOIC, 8-Leads, Body 4.9x3.9mm, Pitch 1.27mm, IPC Low Density)
pins: 1 OUT (power), 2 IN (power), 3 IN (power), 4 NC, 5 GND (in), 6 IN (power), 7 IN (power), 8 NC

## LM79L05ACZ
designator U?
Series 3-Terminal Negative Regulators, 3-pin TO-92; PartNumber: LM79L05ACZ; Manufacturer: National Semiconductor; PackageTopMarking: NSXYTT*320L*79L05; PowerWise: N; CompType: LDO IC; Published: 4-Dec-2008; DatasheetVersion: Mar-2006; PackageVersion: revG, Sep-2000; PackageReference: Z03A; Publisher: Altium Limited; PackageDescription: TO-92, Molded, 3 Lead; RoHS: N; PinCount: 3; Code_JEDEC: TO-226-AA; ComponentLink1Description: LM79L05AC Datasheet; ComponentLink1URL: http://www.national.com/ds/LM/LM79L05.pdf; ComponentLink2Description: LM79L05AC Web Page; ComponentLink2URL: http://www.national.com/pf/LM/LM79L05AC.html; ComponentLink3Description: Z03A Package Page; ComponentLink3URL: http://www.national.com/packaging/folders/z03a.html
footprint Z03A (TO, Flat Index; 3 In-Line, Axial Leads; Body Dia. 5mm; Leads 0.55 x 0.50 mm (max))
pins: 1 GND (power), 2 IN (power), 3 OUT (power)

## LM79L12ACM
designator U?
Series 3-Terminal Negative Regulators, 8-pin Narrow SOIC; PartNumber: LM79L12ACM; Manufacturer: National Semiconductor; PackageTopMarking: NSZXTT*LM79L*12ACM; PowerWise: N; CompType: LDO IC; Published: 4-Dec-2008; DatasheetVersion: Mar-2006; PackageVersion: revM, May-2009; PackageReference: M08A; Publisher: Altium Limited; PackageDescription: SOIC Narrow, 4.9 x 3.9 x 1.45mm, 8 Lead, 1.27mm Pitch; Supplier 1: Farnell; Supplier Part Number 1: 9490388; RoHS: N; PinCount: 8; Code_JEDEC: MS-012-AA; Code_IPC: SOIC127P600-8; ComponentLink1Description: LM79L12AC Datasheet; ComponentLink1URL: http://www.national.com/ds/LM/LM79L12.pdf; ComponentLink2Description: LM79L12AC Web Page; ComponentLink2URL: http://www.national.com/pf/LM/LM79L12AC.html; ComponentLink3Description: M08A Package Page; ComponentLink3URL: http://www.national.com/packaging/folders/m08a.html
footprint M08A_N (SOIC, 8-Leads, Body 4.9x3.9mm, Pitch 1.27mm, IPC Medium Density)
footprint M08A_L (SOIC, 8-Leads, Body 4.9x3.9mm, Pitch 1.27mm, IPC High Density)
footprint M08A_M (SOIC, 8-Leads, Body 4.9x3.9mm, Pitch 1.27mm, IPC Low Density)
pins: 1 OUT (power), 2 IN (power), 3 IN (power), 4 NC, 5 GND (in), 6 IN (power), 7 IN (power), 8 NC

## LM79L12ACM/NOPB
designator U?
Series 3-Terminal Negative Regulators, 8-pin Narrow SOIC, Pb-Free; PartNumber: LM79L12ACM/NOPB; Manufacturer: National Semiconductor; PackageTopMarking: NSZXTT*LM79L*12ACM; PowerWise: N; CompType: LDO IC; Published: 1-Mar-2010; DatasheetVersion: Mar-2006; PackageVersion: revM, May-2009; PackageReference: M08A; Publisher: Altium Limited; PackageDescription: SOIC Narrow, 4.9 x 3.9 x 1.45mm, 8 Lead, 1.27mm Pitch; Supplier 1: Digi-Key; Supplier Part Number 1: LM79L12ACM-ND; Supplier 2: Farnell; Supplier Part Number 2: 1202986; RoHS: Y; PinCount: 8; Code_JEDEC: MS-012-AA; Code_IPC: SOIC127P600-8; ComponentLink1Description: LM79L12AC Datasheet; ComponentLink1URL: http://www.national.com/ds/LM/LM79L12.pdf; ComponentLink2Description: LM79L12AC Web Page; ComponentLink2URL: http://www.national.com/pf/LM/LM79L12AC.html; ComponentLink3Description: M08A Package Page; ComponentLink3URL: http://www.national.com/packaging/folders/m08a.html
footprint M08A_N (SOIC, 8-Leads, Body 4.9x3.9mm, Pitch 1.27mm, IPC Medium Density)
footprint M08A_L (SOIC, 8-Leads, Body 4.9x3.9mm, Pitch 1.27mm, IPC High Density)
footprint M08A_M (SOIC, 8-Leads, Body 4.9x3.9mm, Pitch 1.27mm, IPC Low Density)
pins: 1 OUT (power), 2 IN (power), 3 IN (power), 4 NC, 5 GND (in), 6 IN (power), 7 IN (power), 8 NC

## LM79L12ACMX
designator U?
Series 3-Terminal Negative Regulators, 8-pin Narrow SOIC; PartNumber: LM79L12ACMX; Manufacturer: National Semiconductor; PackageTopMarking: NSZXTT*LM79L*12ACM; PowerWise: N; CompType: LDO IC; Published: 1-Mar-2010; DatasheetVersion: Mar-2006; PackageVersion: revM, May-2009; PackageReference: M08A; Publisher: Altium Limited; PackageDescription: SOIC Narrow, 4.9 x 3.9 x 1.45mm, 8 Lead, 1.27mm Pitch; RoHS: N; PinCount: 8; Code_JEDEC: MS-012-AA; Code_IPC: SOIC127P600-8; ComponentLink1Description: LM79L12AC Datasheet; ComponentLink1URL: http://www.national.com/ds/LM/LM79L12.pdf; ComponentLink2Description: LM79L12AC Web Page; ComponentLink2URL: http://www.national.com/pf/LM/LM79L12AC.html; ComponentLink3Description: M08A Package Page; ComponentLink3URL: http://www.national.com/packaging/folders/m08a.html
footprint M08A_N (SOIC, 8-Leads, Body 4.9x3.9mm, Pitch 1.27mm, IPC Medium Density)
footprint M08A_L (SOIC, 8-Leads, Body 4.9x3.9mm, Pitch 1.27mm, IPC High Density)
footprint M08A_M (SOIC, 8-Leads, Body 4.9x3.9mm, Pitch 1.27mm, IPC Low Density)
pins: 1 OUT (power), 2 IN (power), 3 IN (power), 4 NC, 5 GND (in), 6 IN (power), 7 IN (power), 8 NC

## LM79L12ACZ
designator U?
Series 3-Terminal Negative Regulators, 3-pin TO-92; PartNumber: LM79L12ACZ; Manufacturer: National Semiconductor; PackageTopMarking: NSXYTT*320L*79L12; PowerWise: N; CompType: LDO IC; Published: 4-Dec-2008; DatasheetVersion: Mar-2006; PackageVersion: revG, Sep-2000; PackageReference: Z03A; Publisher: Altium Limited; PackageDescription: TO-92, Molded, 3 Lead; Supplier 1: Farnell; Supplier Part Number 1: 9490396; RoHS: N; PinCount: 3; Code_JEDEC: TO-226-AA; ComponentLink1Description: LM79L12AC Datasheet; ComponentLink1URL: http://www.national.com/ds/LM/LM79L12.pdf; ComponentLink2Description: LM79L12AC Web Page; ComponentLink2URL: http://www.national.com/pf/LM/LM79L12AC.html; ComponentLink3Description: Z03A Package Page; ComponentLink3URL: http://www.national.com/packaging/folders/z03a.html
footprint Z03A (TO, Flat Index; 3 In-Line, Axial Leads; Body Dia. 5mm; Leads 0.55 x 0.50 mm (max))
pins: 1 GND (power), 2 IN (power), 3 OUT (power)

## LM79L15ACM
designator U?
Series 3-Terminal Negative Regulators, 8-pin Narrow SOIC; PartNumber: LM79L15ACM; Manufacturer: National Semiconductor; PackageTopMarking: NSZXTT*LM79L*15ACM; PowerWise: N; CompType: LDO IC; Published: 4-Dec-2008; DatasheetVersion: Mar-2006; PackageVersion: revM, May-2009; PackageReference: M08A; Publisher: Altium Limited; PackageDescription: SOIC Narrow, 4.9 x 3.9 x 1.45mm, 8 Lead, 1.27mm Pitch; Supplier 1: Farnell; Supplier Part Number 1: 7593168; RoHS: N; PinCount: 8; Code_JEDEC: MS-012-AA; Code_IPC: SOIC127P600-8; ComponentLink1Description: LM79L15AC Datasheet; ComponentLink1URL: http://www.national.com/ds/LM/LM79L15.pdf; ComponentLink2Description: LM79L15AC Web Page; ComponentLink2URL: http://www.national.com/pf/LM/LM79L15AC.html; ComponentLink3Description: M08A Package Page; ComponentLink3URL: http://www.national.com/packaging/folders/m08a.html
footprint M08A_N (SOIC, 8-Leads, Body 4.9x3.9mm, Pitch 1.27mm, IPC Medium Density)
footprint M08A_L (SOIC, 8-Leads, Body 4.9x3.9mm, Pitch 1.27mm, IPC High Density)
footprint M08A_M (SOIC, 8-Leads, Body 4.9x3.9mm, Pitch 1.27mm, IPC Low Density)
pins: 1 OUT (power), 2 IN (power), 3 IN (power), 4 NC, 5 GND (in), 6 IN (power), 7 IN (power), 8 NC

## LM79L15ACM/NOPB
designator U?
Series 3-Terminal Negative Regulators, 8-pin Narrow SOIC, Pb-Free; PartNumber: LM79L15ACM/NOPB; Manufacturer: National Semiconductor; PackageTopMarking: NSZXTT*LM79L*15ACM; PowerWise: N; CompType: LDO IC; Published: 1-Mar-2010; DatasheetVersion: Mar-2006; PackageVersion: revM, May-2009; PackageReference: M08A; Publisher: Altium Limited; PackageDescription: SOIC Narrow, 4.9 x 3.9 x 1.45mm, 8 Lead, 1.27mm Pitch; Supplier 1: Digi-Key; Supplier Part Number 1: LM79L15ACM-ND; Supplier 2: Farnell; Supplier Part Number 2: 1564713; RoHS: Y; PinCount: 8; Code_JEDEC: MS-012-AA; Code_IPC: SOIC127P600-8; ComponentLink1Description: LM79L15AC Datasheet; ComponentLink1URL: http://www.national.com/ds/LM/LM79L15.pdf; ComponentLink2Description: LM79L15AC Web Page; ComponentLink2URL: http://www.national.com/pf/LM/LM79L15AC.html; ComponentLink3Description: M08A Package Page; ComponentLink3URL: http://www.national.com/packaging/folders/m08a.html
footprint M08A_N (SOIC, 8-Leads, Body 4.9x3.9mm, Pitch 1.27mm, IPC Medium Density)
footprint M08A_L (SOIC, 8-Leads, Body 4.9x3.9mm, Pitch 1.27mm, IPC High Density)
footprint M08A_M (SOIC, 8-Leads, Body 4.9x3.9mm, Pitch 1.27mm, IPC Low Density)
pins: 1 OUT (power), 2 IN (power), 3 IN (power), 4 NC, 5 GND (in), 6 IN (power), 7 IN (power), 8 NC

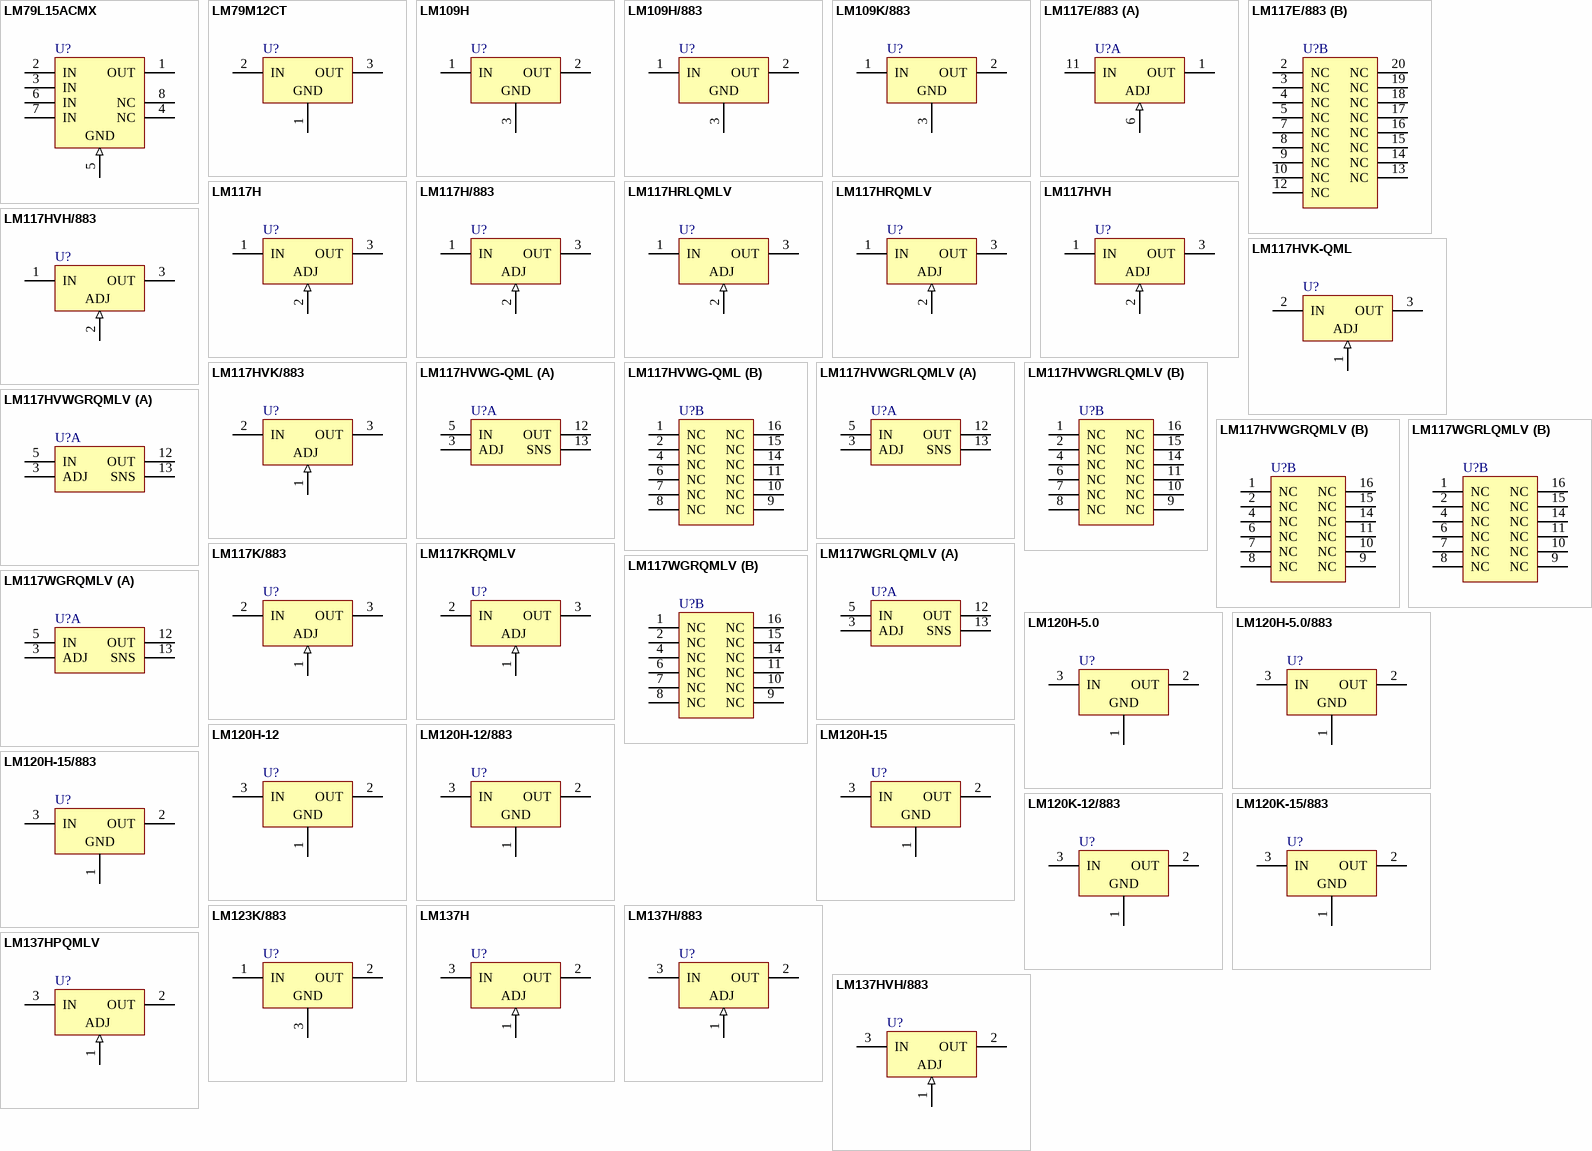
[diagram p1: symbols LM79L15ACMX to LM137HVH/883]

## LM79L15ACMX
designator U?
Series 3-Terminal Negative Regulators, 8-pin Narrow SOIC; PartNumber: LM79L15ACMX; Manufacturer: National Semiconductor; PackageTopMarking: NSZXTT*LM79L*15ACM; PowerWise: N; CompType: LDO IC; Published: 1-Mar-2010; DatasheetVersion: Mar-2006; PackageVersion: revM, May-2009; PackageReference: M08A; Publisher: Altium Limited; PackageDescription: SOIC Narrow, 4.9 x 3.9 x 1.45mm, 8 Lead, 1.27mm Pitch; RoHS: N; PinCount: 8; Code_JEDEC: MS-012-AA; Code_IPC: SOIC127P600-8; ComponentLink1Description: LM79L15AC Datasheet; ComponentLink1URL: http://www.national.com/ds/LM/LM79L15.pdf; ComponentLink2Description: LM79L15AC Web Page; ComponentLink2URL: http://www.national.com/pf/LM/LM79L15AC.html; ComponentLink3Description: M08A Package Page; ComponentLink3URL: http://www.national.com/packaging/folders/m08a.html
footprint M08A_N (SOIC, 8-Leads, Body 4.9x3.9mm, Pitch 1.27mm, IPC Medium Density)
footprint M08A_L (SOIC, 8-Leads, Body 4.9x3.9mm, Pitch 1.27mm, IPC High Density)
footprint M08A_M (SOIC, 8-Leads, Body 4.9x3.9mm, Pitch 1.27mm, IPC Low Density)
pins: 1 OUT (power), 2 IN (power), 3 IN (power), 4 NC, 5 GND (in), 6 IN (power), 7 IN (power), 8 NC

## LM79M12CT
designator U?
3-Terminal Negative Regulators, 3-pin TO-220; PartNumber: LM79M12CT; Manufacturer: National Semiconductor; PackageTopMarking: NSUZXYTTE#*LM79M*12CT; PowerWise: N; CompType: LDO IC; Published: 4-Dec-2008; DatasheetVersion: Sep-2001; PackageVersion: revL, Jan-1992; PackageReference: T03B; Publisher: Altium Limited; PackageDescription: TO-220, Molded, 3 Lead, Straight; Supplier 1: Farnell; Supplier Part Number 1: 9490400; RoHS: N; PinCount: 3; ComponentLink1Description: LM79M12 Datasheet; ComponentLink1URL: http://www.national.com/ds/LM/LM79M12.pdf; ComponentLink2Description: LM79M12 Web Page; ComponentLink2URL: http://www.national.com/pf/LM/LM79M12.html; ComponentLink3Description: T03B Package Page; ComponentLink3URL: http://www.national.com/packaging/folders/t03b.html
footprint T03B (TO, Thru-Hole, Vertical, Heatsink Mounted; 3 In-Line Leads; Pitch 2.54 mm)
pins: 1 GND (power), 2 IN (power), 3 OUT (power)

## LM109H
designator U?
5-Volt Regulator, 3-pin TO-39; PartNumber: LM109H; Manufacturer: National Semiconductor; PackageTopMarking: NSZXYTTE# LM109HP+; PowerWise: N; CompType: LDO IC; High-Reliability: Y; Published: 4-Dec-2008; DatasheetVersion: Apr-1998; PackageVersion: revD, Feb-1995; PackageReference: H03A; Publisher: Altium Limited; PackageDescription: Metal Can, TO-39, 3 Lead, .200in Dia, P.C.; RoHS: N; PinCount: 3; Code_JEDEC: TO-39; ComponentLink1Description: LM109 Datasheet; ComponentLink1URL: http://www.national.com/ds/LM/LM109.pdf; ComponentLink2Description: LM109 Web Page; ComponentLink2URL: http://www.national.com/pf/LM/LM109.html; ComponentLink3Description: H03A Package Page; ComponentLink3URL: http://www.national.com/packaging/folders/h03a.html
footprint H03A (Can; 3 Leads; Pin Circle Dia. 5.08 mm; Lead Dia. 0.48 mm (max))
pins: 1 IN (power), 2 OUT (power), 3 GND (power)

## LM109H/883
designator U?
5-Volt Regulator, 3-pin TO-39; PartNumber: LM109H/883; Manufacturer: National Semiconductor; PackageTopMarking: NS ZSSXXYYA LM109H/883 Q; PowerWise: N; CompType: LDO IC; High-Reliability: Y; Published: 4-Dec-2008; DatasheetVersion: Apr-1998; PackageVersion: revD, Feb-1995; PackageReference: H03A; Publisher: Altium Limited; PackageDescription: Metal Can, TO-39, 3 Lead, .200in Dia, P.C.; RoHS: N; PinCount: 3; Code_JEDEC: TO-39; ComponentLink1Description: LM109 Datasheet; ComponentLink1URL: http://www.national.com/ds/LM/LM109QML.pdf; ComponentLink2Description: LM109 Web Page; ComponentLink2URL: http://www.national.com/pf/LM/LM109.html; ComponentLink3Description: H03A Package Page; ComponentLink3URL: http://www.national.com/packaging/folders/h03a.html
footprint H03A (Can; 3 Leads; Pin Circle Dia. 5.08 mm; Lead Dia. 0.48 mm (max))
pins: 1 IN (power), 2 OUT (power), 3 GND (power)

## LM109K/883
designator U?
5-Volt Regulator, 3-pin TO-3; PartNumber: LM109K/883; Manufacturer: National Semiconductor; PackageTopMarking: NSZSSXXYYA*LM109K/883* Q; PowerWise: N; CompType: LDO IC; High-Reliability: Y; Published: 4-Dec-2008; DatasheetVersion: Apr-1998; PackageVersion: revE, Sep-1995; PackageReference: K02C; Publisher: Altium Limited; PackageDescription: Metal Can TO-3, 2 Lead, Low Profile; RoHS: N; PinCount: 2; ComponentLink1Description: LM109 Datasheet; ComponentLink1URL: http://www.national.com/ds/LM/LM109QML.pdf; ComponentLink2Description: LM109 Web Page; ComponentLink2URL: http://www.national.com/pf/LM/LM109.html; ComponentLink3Description: K02C Package Page; ComponentLink3URL: http://www.national.com/packaging/folders/k02c.html
footprint K02C (Oval Flange Mount with (2) Offset Leads; Pin Spacing 10.92 mm; Lead Dia. 1.09 mm (max))
pins: 1 IN (power), 2 OUT (power), 3 GND (power)